# EAGLE library part PIC32MZXXXXEC(E/F/K)144 (library PIC32MZxxxxEC(GHM))
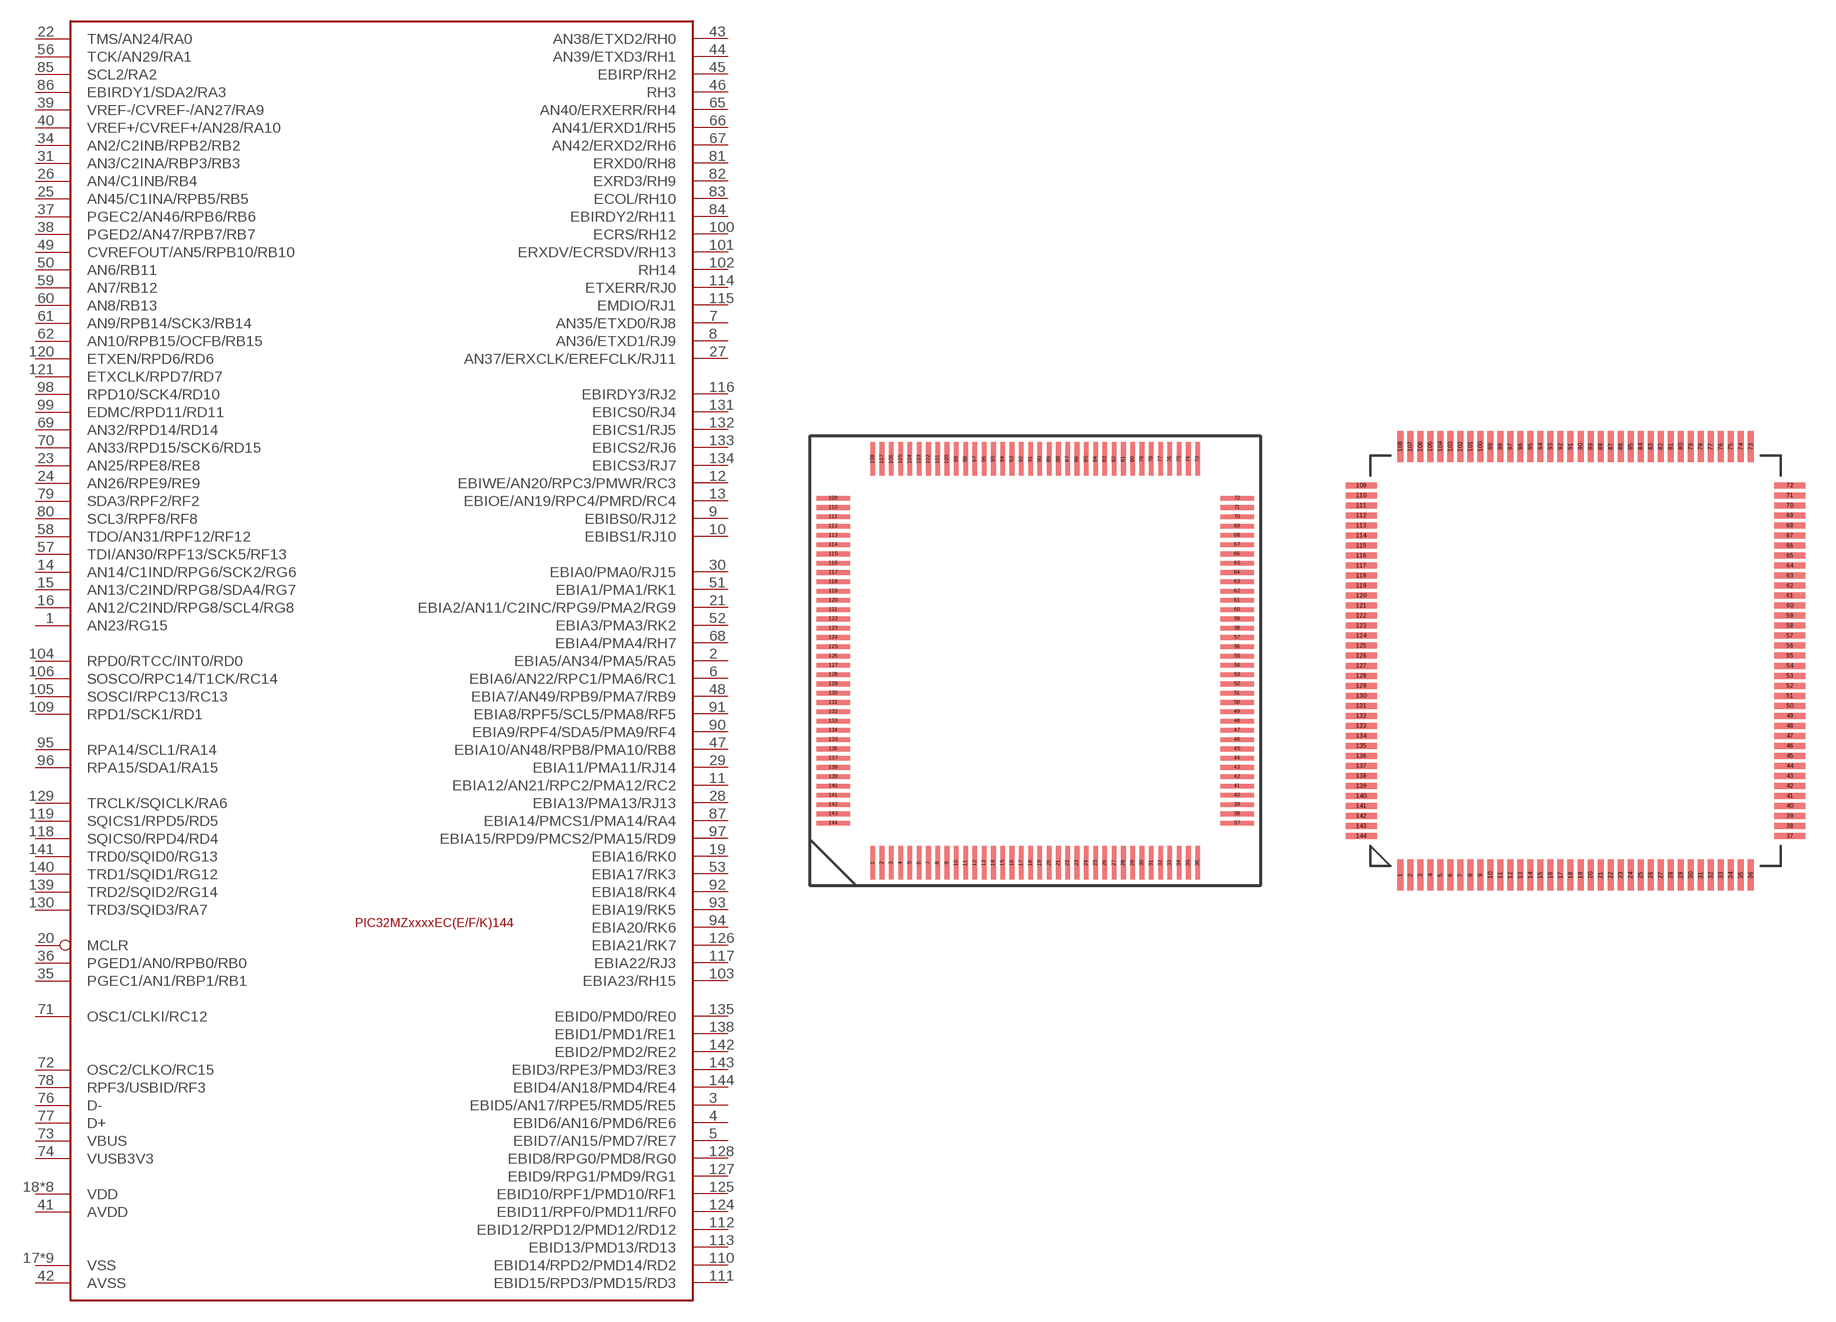
[diagram p1: symbol with the pads of TQFP-144; footprints TQFP-144, LQFP-144]

Designator prefix -

## PIC32MZXXXXEC(E/F/K)144PIC32MZ2048ECH144-I/PH  [TQFP-144]
1  AN23/RG15
2  EBIA5/AN34/PMA5/RA5
3  EBID5/AN17/RPE5/RMD5/RE5
4  EBID6/AN16/PMD6/RE6
5  EBID7/AN15/PMD7/RE7
6  EBIA6/AN22/RPC1/PMA6/RC1
7  AN35/ETXD0/RJ8
8  AN36/ETXD1/RJ9
9  EBIBS0/RJ12
10  EBIBS1/RJ10
11  EBIA12/AN21/RPC2/PMA12/RC2
12  EBIWE/AN20/RPC3/PMWR/RC3
13  EBIOE/AN19/RPC4/PMRD/RC4
14  AN14/C1IND/RPG6/SCK2/RG6
15  AN13/C2IND/RPG8/SDA4/RG7
16  AN12/C2IND/RPG8/SCL4/RG8
17  VSS
18  VDD
19  EBIA16/RK0
20  MCLR  in
21  EBIA2/AN11/C2INC/RPG9/PMA2/RG9
22  TMS/AN24/RA0
23  AN25/RPE8/RE8
24  AN26/RPE9/RE9
25  AN45/C1INA/RPB5/RB5
26  AN4/C1INB/RB4
27  AN37/ERXCLK/EREFCLK/RJ11
28  EBIA13/PMA13/RJ13
29  EBIA11/PMA11/RJ14
30  EBIA0/PMA0/RJ15
31  AN3/C2INA/RBP3/RB3
32  VSS
33  VDD
34  AN2/C2INB/RPB2/RB2
35  PGEC1/AN1/RBP1/RB1
36  PGED1/AN0/RPB0/RB0
37  PGEC2/AN46/RPB6/RB6
38  PGED2/AN47/RPB7/RB7
39  VREF-/CVREF-/AN27/RA9
40  VREF+/CVREF+/AN28/RA10
41  AVDD
42  AVSS
43  AN38/ETXD2/RH0
44  AN39/ETXD3/RH1
45  EBIRP/RH2
46  RH3
47  EBIA10/AN48/RPB8/PMA10/RB8
48  EBIA7/AN49/RPB9/PMA7/RB9
49  CVREFOUT/AN5/RPB10/RB10
50  AN6/RB11
51  EBIA1/PMA1/RK1
52  EBIA3/PMA3/RK2
53  EBIA17/RK3
54  VSS
55  VDD
56  TCK/AN29/RA1
57  TDI/AN30/RPF13/SCK5/RF13
58  TDO/AN31/RPF12/RF12
59  AN7/RB12
60  AN8/RB13
61  AN9/RPB14/SCK3/RB14
62  AN10/RPB15/OCFB/RB15
63  VSS
64  VDD
65  AN40/ERXERR/RH4
66  AN41/ERXD1/RH5
67  AN42/ERXD2/RH6
68  EBIA4/PMA4/RH7
69  AN32/RPD14/RD14
70  AN33/RPD15/SCK6/RD15
71  OSC1/CLKI/RC12
72  OSC2/CLKO/RC15
73  VBUS
74  VUSB3V3
75  VSS
76  D-
77  D+
78  RPF3/USBID/RF3
79  SDA3/RPF2/RF2
80  SCL3/RPF8/RF8
81  ERXD0/RH8
82  EXRD3/RH9
83  ECOL/RH10
84  EBIRDY2/RH11
85  SCL2/RA2
86  EBIRDY1/SDA2/RA3
87  EBIA14/PMCS1/PMA14/RA4
88  VDD
89  VSS
90  EBIA9/RPF4/SDA5/PMA9/RF4
91  EBIA8/RPF5/SCL5/PMA8/RF5
92  EBIA18/RK4
93  EBIA19/RK5
94  EBIA20/RK6
95  RPA14/SCL1/RA14
96  RPA15/SDA1/RA15
97  EBIA15/RPD9/PMCS2/PMA15/RD9
98  RPD10/SCK4/RD10
99  EDMC/RPD11/RD11
100  ECRS/RH12
101  ERXDV/ECRSDV/RH13
102  RH14
103  EBIA23/RH15
104  RPD0/RTCC/INT0/RD0
105  SOSCI/RPC13/RC13
106  SOSCO/RPC14/T1CK/RC14
107  VDD
108  VSS
109  RPD1/SCK1/RD1
110  EBID14/RPD2/PMD14/RD2
111  EBID15/RPD3/PMD15/RD3
112  EBID12/RPD12/PMD12/RD12
113  EBID13/PMD13/RD13
114  ETXERR/RJ0
115  EMDIO/RJ1
116  EBIRDY3/RJ2
117  EBIA22/RJ3
118  SQICS0/RPD4/RD4
119  SQICS1/RPD5/RD5
120  ETXEN/RPD6/RD6
121  ETXCLK/RPD7/RD7
122  VDD
123  VSS
124  EBID11/RPF0/PMD11/RF0
125  EBID10/RPF1/PMD10/RF1
126  EBIA21/RK7
127  EBID9/RPG1/PMD9/RG1
128  EBID8/RPG0/PMD8/RG0
129  TRCLK/SQICLK/RA6
130  TRD3/SQID3/RA7
131  EBICS0/RJ4
132  EBICS1/RJ5
133  EBICS2/RJ6
134  EBICS3/RJ7
135  EBID0/PMD0/RE0
136  VSS
137  VDD
138  EBID1/PMD1/RE1
139  TRD2/SQID2/RG14
140  TRD1/SQID1/RG12
141  TRD0/SQID0/RG13
142  EBID2/PMD2/RE2
143  EBID3/RPE3/PMD3/RE3
144  EBID4/AN18/PMD4/RE4

## PIC32MZXXXXEC(E/F/K)144PIC32MZ2048ECH144-I/PL  [LQFP-144]
Pads as for TQFP-144

## Footprint TQFP-144 (pad centres in mm)
smd 0.2 x 1.45: 1 1.7,0; 2 2.1,0; 3 2.5,0; 4 2.9,0; 5 3.3,0; 6 3.7,0; 7 4.1,0; 8 4.5,0; 9 4.9,0; 10 5.3,0; 11 5.7,0; 12 6.1,0; 13 6.5,0; 14 6.9,0; 15 7.3,0; 16 7.7,0; 17 8.1,0; 18 8.5,0; 19 8.9,0; 20 9.3,0; 21 9.7,0; 22 10.1,0; 23 10.5,0; 24 10.9,0; 25 11.3,0; 26 11.7,0; 27 12.1,0; 28 12.5,0; 29 12.9,0; 30 13.3,0; 31 13.7,0; 32 14.1,0; 33 14.5,0; 34 14.9,0; 35 15.3,0; 36 15.7,0; 73 15.7,17.4; 74 15.3,17.4; 75 14.9,17.4; 76 14.5,17.4; 77 14.1,17.4; 78 13.7,17.4; 79 13.3,17.4; 80 12.9,17.4; 81 12.5,17.4; 82 12.1,17.4; 83 11.7,17.4; 84 11.3,17.4; 85 10.9,17.4; 86 10.5,17.4; 87 10.1,17.4; 88 9.7,17.4; 89 9.3,17.4; 90 8.9,17.4; 91 8.5,17.4; 92 8.1,17.4; 93 7.7,17.4; 94 7.3,17.4; 95 6.9,17.4; 96 6.5,17.4; 97 6.1,17.4; 98 5.7,17.4; 99 5.3,17.4; 100 4.9,17.4; 101 4.5,17.4; 102 4.1,17.4; 103 3.7,17.4; 104 3.3,17.4; 105 2.9,17.4; 106 2.5,17.4; 107 2.1,17.4; 108 1.7,17.4
smd 1.45 x 0.2: 37 17.4,1.7; 38 17.4,2.1; 39 17.4,2.5; 40 17.4,2.9; 41 17.4,3.3; 42 17.4,3.7; 43 17.4,4.1; 44 17.4,4.5; 45 17.4,4.9; 46 17.4,5.3; 47 17.4,5.7; 48 17.4,6.1; 49 17.4,6.5; 50 17.4,6.9; 51 17.4,7.3; 52 17.4,7.7; 53 17.4,8.1; 54 17.4,8.5; 55 17.4,8.9; 56 17.4,9.3; 57 17.4,9.7; 58 17.4,10.1; 59 17.4,10.5; 60 17.4,10.9; 61 17.4,11.3; 62 17.4,11.7; 63 17.4,12.1; 64 17.4,12.5; 65 17.4,12.9; 66 17.4,13.3; 67 17.4,13.7; 68 17.4,14.1; 69 17.4,14.5; 70 17.4,14.9; 71 17.4,15.3; 72 17.4,15.7; 109 0,15.7; 110 0,15.3; 111 0,14.9; 112 0,14.5; 113 0,14.1; 114 0,13.7; 115 0,13.3; 116 0,12.9; 117 0,12.5; 118 0,12.1; 119 0,11.7; 120 0,11.3; 121 0,10.9; 122 0,10.5; 123 0,10.1; 124 0,9.7; 125 0,9.3; 126 0,8.9; 127 0,8.5; 128 0,8.1; 129 0,7.7; 130 0,7.3; 131 0,6.9; 132 0,6.5; 133 0,6.1; 134 0,5.7; 135 0,5.3; 136 0,4.9; 137 0,4.5; 138 0,4.1; 139 0,3.7; 140 0,3.3; 141 0,2.9; 142 0,2.5; 143 0,2.1; 144 0,1.7

## Footprint LQFP-144 (pad centres in mm)
smd 0.3 x 1.55: 1 0,-1.95; 2 0.5,-1.95; 3 1,-1.95; 4 1.5,-1.95; 5 2,-1.95; 6 2.5,-1.95; 7 3,-1.95; 8 3.5,-1.95; 9 4,-1.95; 10 4.5,-1.95; 11 5,-1.95; 12 5.5,-1.95; 13 6,-1.95; 14 6.5,-1.95; 15 7,-1.95; 16 7.5,-1.95; 17 8,-1.95; 18 8.5,-1.95; 19 9,-1.95; 20 9.5,-1.95; 21 10,-1.95; 22 10.5,-1.95; 23 11,-1.95; 24 11.5,-1.95; 25 12,-1.95; 26 12.5,-1.95; 27 13,-1.95; 28 13.5,-1.95; 29 14,-1.95; 30 14.5,-1.95; 31 15,-1.95; 32 15.5,-1.95; 33 16,-1.95; 34 16.5,-1.95; 35 17,-1.95; 36 17.5,-1.95; 73 17.5,19.45; 74 17,19.45; 75 16.5,19.45; 76 16,19.45; 77 15.5,19.45; 78 15,19.45; 79 14.5,19.45; 80 14,19.45; 81 13.5,19.45; 82 13,19.45; 83 12.5,19.45; 84 12,19.45; 85 11.5,19.45; 86 11,19.45; 87 10.5,19.45; 88 10,19.45; 89 9.5,19.45; 90 9,19.45; 91 8.5,19.45; 92 8,19.45; 93 7.5,19.45; 94 7,19.45; 95 6.5,19.45; 96 6,19.45; 97 5.5,19.45; 98 5,19.45; 99 4.5,19.45; 100 4,19.45; 101 3.5,19.45; 102 3,19.45; 103 2.5,19.45; 104 2,19.45; 105 1.5,19.45; 106 1,19.45; 107 0.5,19.45; 108 0,19.45
smd 1.55 x 0.3: 37 19.45,0; 38 19.45,0.5; 39 19.45,1; 40 19.45,1.5; 41 19.45,2; 42 19.45,2.5; 43 19.45,3; 44 19.45,3.5; 45 19.45,4; 46 19.45,4.5; 47 19.45,5; 48 19.45,5.5; 49 19.45,6; 50 19.45,6.5; 51 19.45,7; 52 19.45,7.5; 53 19.45,8; 54 19.45,8.5; 55 19.45,9; 56 19.45,9.5; 57 19.45,10; 58 19.45,10.5; 59 19.45,11; 60 19.45,11.5; 61 19.45,12; 62 19.45,12.5; 63 19.45,13; 64 19.45,13.5; 65 19.45,14; 66 19.45,14.5; 67 19.45,15; 68 19.45,15.5; 69 19.45,16; 70 19.45,16.5; 71 19.45,17; 72 19.45,17.5; 109 -1.95,17.5; 110 -1.95,17; 111 -1.95,16.5; 112 -1.95,16; 113 -1.95,15.5; 114 -1.95,15; 115 -1.95,14.5; 116 -1.95,14; 117 -1.95,13.5; 118 -1.95,13; 119 -1.95,12.5; 120 -1.95,12; 121 -1.95,11.5; 122 -1.95,11; 123 -1.95,10.5; 124 -1.95,10; 125 -1.95,9.5; 126 -1.95,9; 127 -1.95,8.5; 128 -1.95,8; 129 -1.95,7.5; 130 -1.95,7; 131 -1.95,6.5; 132 -1.95,6; 133 -1.95,5.5; 134 -1.95,5; 135 -1.95,4.5; 136 -1.95,4; 137 -1.95,3.5; 138 -1.95,3; 139 -1.95,2.5; 140 -1.95,2; 141 -1.95,1.5; 142 -1.95,1; 143 -1.95,0.5; 144 -1.95,0